# Altium schematic symbol library BM02B-SRSS-TB(LF)(SN).SchLib: 1 symbol
Pins are listed as number, name and electrical type; pins without a type are passive.

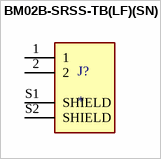
[diagram p0: symbol BM02B-SRSS-TB(LF)(SN)]

## BM02B-SRSS-TB(LF)(SN)
designator J?
Conn Shrouded Header (4 Sides) HDR 2 POS 1mm Solder ST Top Entry SMD T/R; MP: BM02B-SRSS-TB(LF)(SN); MF: JST Sales America Inc.; Package: None; Check_prices: https://www.snapeda.com/parts/BM02B-SRSS-TB(LF)(SN)/JST/view-part/?ref=eda; SnapEDA_Link: https://www.snapeda.com/parts/BM02B-SRSS-TB(LF)(SN)/JST/view-part/?ref=snap; Availability: In Stock; Price: None; Value: *
footprint JST_BM02B-SRSS-TB(LF)(SN)
pins: 1, 2, S1 SHIELD, S2 SHIELD